# EAGLE library part BM10B(0.8)-16DP-0.4V(51) (library BM10B(0.8))
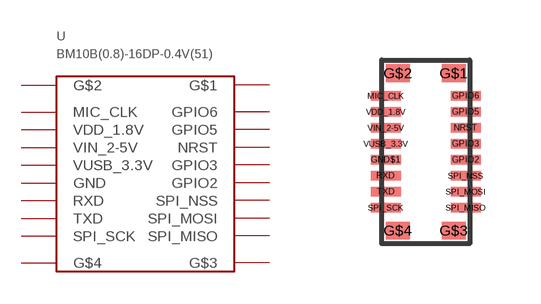
[diagram p0: symbol with the pads of BM10B(0.8)-16DP-0.4V(51); footprint BM10B(0.8)-16DP-0.4V(51)]

Designator prefix -

## BM10B(0.8)-16DP-0.4V(51)  [BM10B(0.8)-16DP-0.4V(51)]
G$1  G$1
G$2  G$2
G$3  G$3
G$4  G$4
GND$1  GND
GPIO2  GPIO2
GPIO3  GPIO3
GPIO5  GPIO5
GPIO6  GPIO6
MIC_CLK  MIC_CLK
NRST  NRST
RXD  RXD
SPI_MISO  SPI_MISO
SPI_MOSI  SPI_MOSI
SPI_NSS  SPI_NSS
SPI_SCK  SPI_SCK
TXD  TXD
VDD_1.8V  VDD_1.8V
VIN_2-5V  VIN_2-5V
VUSB_3.3V  VUSB_3.3V

## Footprint BM10B(0.8)-16DP-0.4V(51) (pad centres in mm)
‎‏‏‎Hirose Electric Co Ltd‎‏ ‏‎BM10B(0.8)-16DP-0.4V(51)‎‏ Digikey: ‏‎H11812CT-ND‎‏
smd 0.6 x 0.44: G$1 0.7,3.37; G$2 -0.7,3.37; G$3 0.7,-0.57; G$4 -0.7,-0.57
smd 0.75 x 0.23: GND$1 -1,1.2; GPIO2 1,1.2; GPIO3 1,1.6; GPIO5 1,2.4; GPIO6 1,2.8; MIC_CLK -1,2.8; NRST 1,2; RXD -1,0.8; SPI_MISO 1,0; SPI_MOSI 1,0.4; SPI_NSS 1,0.8; SPI_SCK -1,0; TXD -1,0.4; VDD_1.8V -1,2.4; VIN_2-5V -1,2; VUSB_3.3V -1,1.6